# EAGLE library part D-FF6 (library digital)
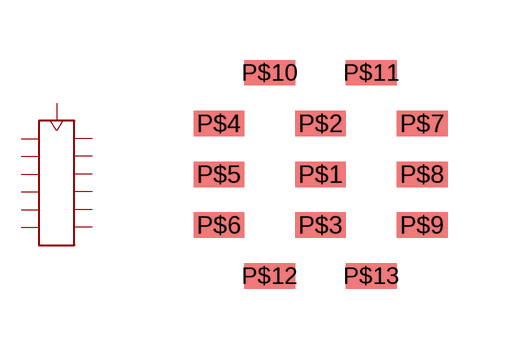
[diagram p3: symbol with the pads of 13PIN; footprint 13PIN]

Designator prefix -

## D-FF6  [13PIN]
P$1  CLK
P$2  D1
P$3  D2
P$4  D3
P$5  D4
P$6  D5
P$7  D6
P$8  Q1
P$9  Q2
P$10  Q3
P$11  Q4
P$12  Q5
P$13  Q6

## Footprint 13PIN (pad centres in mm)
smd 1.27 x 0.635: P$1 0,0; P$2 0,1.27; P$3 0,-1.27; P$4 -2.54,1.27; P$5 -2.54,0; P$6 -2.54,-1.27; P$7 2.54,1.27; P$8 2.54,0; P$9 2.54,-1.27; P$10 -1.27,2.54; P$11 1.27,2.54; P$12 -1.27,-2.54; P$13 1.27,-2.54